# EAGLE library part MOSFET-DUAL-N-P (library Pinoccio)
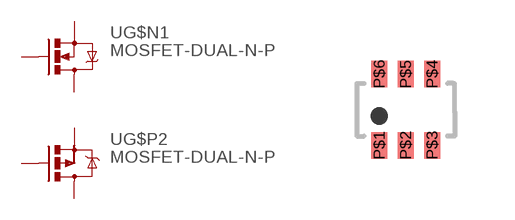
[diagram p8: symbol with the pads of SOT-363/SC-70; footprint SOT-363/SC-70]

Designator prefix -; gates G$N1=MOSFET-NCHANNEL G$P2=MOSFET-PCHANNEL

## MOSFET-DUAL-N-P  [SOT-363/SC-70]
P$1  G$N1:S  pas
P$2  G$N1:G  pas
P$3  G$P2:D  pas
P$4  G$P2:S  pas
P$5  G$P2:G  pas
P$6  G$N1:D  pas

## Footprint SOT-363/SC-70 (pad centres in mm)
smd 0.406 x 0.66: P$1 -0.66,-0.889; P$2 0,-0.889; P$3 0.66,-0.889; P$4 0.66,0.889; P$5 0,0.889; P$6 -0.66,0.889